# Altium footprint library PCB_Frames.PcbLib: 8 footprints
Each footprint in its own frame and in the unit in brackets; x right, y up, seen from the top. Pads: shape width x height; smd on the part's side, far side on the other; paste and mask are expansions set on the pad; w line width, h text height; cw(c..) or ccw(c..) is an arc to the next point about the centre after c.
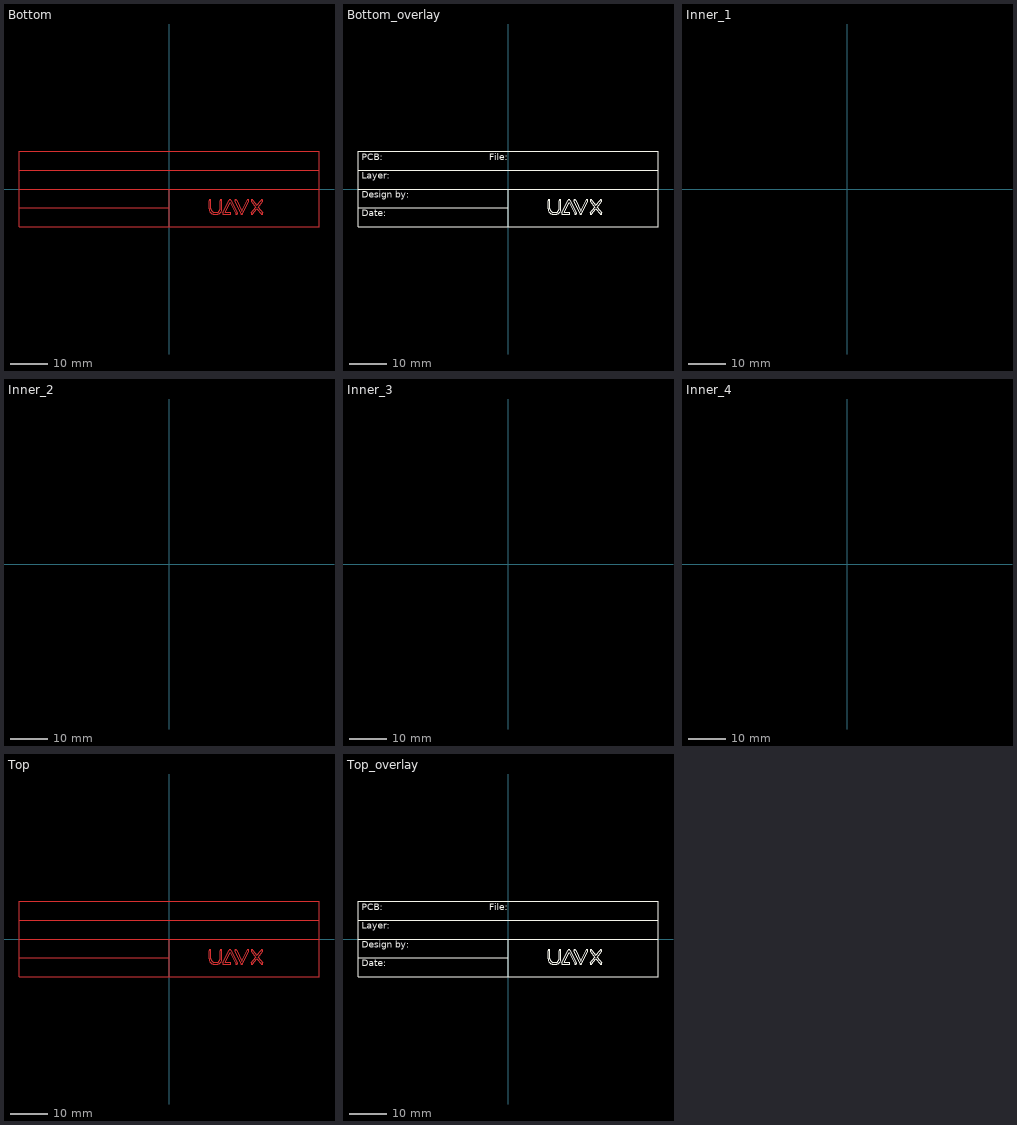
[diagram p0: the footprints below, top view; thin cyan lines are the x and y axes]

## Bottom [mm]
Top Layer:
  lines w0.2: -40,-5 -10,-5 0,-5 ; -40,0 40,0 ; -40,5 40,5 ; 0,-10 0,0 ; -40,-10 -40,10 40,10 40,-10 -40,-10
  lines w0.254: 10.683,-5.249 ccw(c12.196,-5.249) 12.196,-6.762 12.608,-6.762 ccw(c12.618,-5.249) 14.131,-5.249 14.131,-3.11 ccw(c13.88,-3.11) 13.629,-3.11 13.629,-5.249 cw(c12.618,-5.249) 12.609,-6.26 12.196,-6.26 cw(c12.196,-5.249) 11.185,-5.249 11.185,-3.11 ccw(c10.934,-3.11) 10.683,-3.11 10.683,-5.249 ; 14.317,-6.397 ccw(c14.541,-6.511) 14.541,-6.762 16.279,-6.762 ccw(c16.279,-6.511) 16.279,-6.26 14.951,-6.26 16.279,-3.661 17.794,-6.625 ccw(c18.017,-6.511) 18.241,-6.397 16.503,-2.995 ccw(c16.279,-3.11) 16.056,-2.995 14.317,-6.396 ; 17.564,-3.218 cw(c17.79,-3.11) 18.017,-3.001 19.422,-5.93 20.828,-3.001 cw(c21.054,-3.11) 21.28,-3.218 19.648,-6.619 cw(c19.422,-6.511) 19.196,-6.619 17.564,-3.218 ; 21.934,-6.358 ccw(c22.132,-6.511) 22.331,-6.664 23.443,-5.222 24.554,-6.664 ccw(c24.753,-6.511) 24.952,-6.358 23.76,-4.81 24.952,-3.263 ccw(c24.753,-3.11) 24.554,-2.957 23.443,-4.399 22.331,-2.957 ccw(c22.132,-3.11) 21.934,-3.263 23.126,-4.81 21.934,-6.358
  text ".Print_Date" at -30,-8 h3
  text "Date:" at -39,-8 h3
  text "Design by:" at -39,-3 h3
  text ".Author" at -22,-3 h3
  text ".Printout_Name" at -29,2 h3
  text "Layer:" at -39,2 h3
  text ".Pcb_File_Name_No_Path" at 3,7 h3
  text "File:" at -5,7 h3
  text ".Pcb_Name" at -32,7 h3
  text "PCB:" at -39,7 h3

## Bottom_overlay [mm]
Top Overlay:
  lines w0.2: -40,-5 -10,-5 0,-5 ; -40,0 40,0 ; -40,5 40,5 ; 0,-10 0,0 ; -40,-10 -40,10 40,10 40,-10 -40,-10
  lines w0.254: 10.683,-5.249 ccw(c12.196,-5.249) 12.196,-6.762 12.608,-6.762 ccw(c12.618,-5.249) 14.131,-5.249 14.131,-3.11 ccw(c13.88,-3.11) 13.629,-3.11 13.629,-5.249 cw(c12.618,-5.249) 12.609,-6.26 12.196,-6.26 cw(c12.196,-5.249) 11.185,-5.249 11.185,-3.11 ccw(c10.934,-3.11) 10.683,-3.11 10.683,-5.249 ; 14.317,-6.397 ccw(c14.541,-6.511) 14.541,-6.762 16.279,-6.762 ccw(c16.279,-6.511) 16.279,-6.26 14.951,-6.26 16.279,-3.661 17.794,-6.625 ccw(c18.017,-6.511) 18.241,-6.397 16.503,-2.995 ccw(c16.279,-3.11) 16.056,-2.995 14.317,-6.396 ; 17.564,-3.218 cw(c17.79,-3.11) 18.017,-3.001 19.422,-5.93 20.828,-3.001 cw(c21.054,-3.11) 21.28,-3.218 19.648,-6.619 cw(c19.422,-6.511) 19.196,-6.619 17.564,-3.218 ; 21.934,-6.358 ccw(c22.132,-6.511) 22.331,-6.664 23.443,-5.222 24.554,-6.664 ccw(c24.753,-6.511) 24.952,-6.358 23.76,-4.81 24.952,-3.263 ccw(c24.753,-3.11) 24.554,-2.957 23.443,-4.399 22.331,-2.957 ccw(c22.132,-3.11) 21.934,-3.263 23.126,-4.81 21.934,-6.358
  text ".Print_Date" at -30,-8 h3
  text "Date:" at -39,-8 h3
  text "Design by:" at -39,-3 h3
  text ".Author" at -22,-3 h3
  text ".Printout_Name" at -29,2 h3
  text "Layer:" at -39,2 h3
  text ".Pcb_File_Name_No_Path" at 3,7 h3
  text "File:" at -5,7 h3
  text ".Pcb_Name" at -32,7 h3
  text "PCB:" at -39,7 h3

## Inner_1 [mm]
MidLayer1:
  lines w0.2: -40,-5 -10,-5 0,-5 ; -40,0 40,0 ; -40,5 40,5 ; 0,-10 0,0 ; -40,-10 40,-10 40,10 -40,10 -40,-10
  lines w0.254: 10.683,-5.249 ccw(c12.196,-5.249) 12.196,-6.762 12.608,-6.762 ccw(c12.618,-5.249) 14.131,-5.249 14.131,-3.11 ccw(c13.88,-3.11) 13.629,-3.11 13.629,-5.249 cw(c12.618,-5.249) 12.609,-6.26 12.196,-6.26 cw(c12.196,-5.249) 11.185,-5.249 11.185,-3.11 ccw(c10.934,-3.11) 10.683,-3.11 10.683,-5.249 ; 14.317,-6.397 ccw(c14.541,-6.511) 14.541,-6.762 16.279,-6.762 ccw(c16.279,-6.511) 16.279,-6.26 14.951,-6.26 16.279,-3.661 17.794,-6.625 ccw(c18.017,-6.511) 18.241,-6.397 16.503,-2.995 ccw(c16.279,-3.11) 16.056,-2.995 14.317,-6.396 ; 17.564,-3.218 cw(c17.79,-3.11) 18.017,-3.001 19.422,-5.93 20.828,-3.001 cw(c21.054,-3.11) 21.28,-3.218 19.648,-6.619 cw(c19.422,-6.511) 19.196,-6.619 17.564,-3.218 ; 21.934,-6.358 ccw(c22.132,-6.511) 22.331,-6.664 23.443,-5.222 24.554,-6.664 ccw(c24.753,-6.511) 24.952,-6.358 23.76,-4.81 24.952,-3.263 ccw(c24.753,-3.11) 24.554,-2.957 23.443,-4.399 22.331,-2.957 ccw(c22.132,-3.11) 21.934,-3.263 23.126,-4.81 21.934,-6.358
  text "PCB:" at -39,7 h3
  text ".Pcb_Name" at -32,7 h3
  text "File:" at -5,7 h3
  text ".Pcb_File_Name_No_Path" at 3,7 h3
  text "Layer:" at -39,2 h3
  text ".Printout_Name" at -29,2 h3
  text ".Author" at -22,-3 h3
  text "Design by:" at -39,-3 h3
  text "Date:" at -39,-8 h3
  text ".Print_Date" at -30,-8 h3

## Inner_2 [mm]
MidLayer2:
  lines w0.2: -40,-5 -10,-5 0,-5 ; -40,0 40,0 ; -40,5 40,5 ; 0,-10 0,0 ; -40,-10 -40,10 40,10 40,-10 -40,-10
  lines w0.254: 10.683,-5.249 ccw(c12.196,-5.249) 12.196,-6.762 12.608,-6.762 ccw(c12.618,-5.249) 14.131,-5.249 14.131,-3.11 ccw(c13.88,-3.11) 13.629,-3.11 13.629,-5.249 cw(c12.618,-5.249) 12.609,-6.26 12.196,-6.26 cw(c12.196,-5.249) 11.185,-5.249 11.185,-3.11 ccw(c10.934,-3.11) 10.683,-3.11 10.683,-5.249 ; 14.317,-6.397 ccw(c14.541,-6.511) 14.541,-6.762 16.279,-6.762 ccw(c16.279,-6.511) 16.279,-6.26 14.951,-6.26 16.279,-3.661 17.794,-6.625 ccw(c18.017,-6.511) 18.241,-6.397 16.503,-2.995 ccw(c16.279,-3.11) 16.056,-2.995 14.317,-6.396 ; 17.564,-3.218 cw(c17.79,-3.11) 18.017,-3.001 19.422,-5.93 20.828,-3.001 cw(c21.054,-3.11) 21.28,-3.218 19.648,-6.619 cw(c19.422,-6.511) 19.196,-6.619 17.564,-3.218 ; 21.934,-6.358 ccw(c22.132,-6.511) 22.331,-6.664 23.443,-5.222 24.554,-6.664 ccw(c24.753,-6.511) 24.952,-6.358 23.76,-4.81 24.952,-3.263 ccw(c24.753,-3.11) 24.554,-2.957 23.443,-4.399 22.331,-2.957 ccw(c22.132,-3.11) 21.934,-3.263 23.126,-4.81 21.934,-6.358
  text ".Print_Date" at -30,-8 h3
  text "Date:" at -39,-8 h3
  text "Design by:" at -39,-3 h3
  text ".Author" at -22,-3 h3
  text ".Printout_Name" at -29,2 h3
  text "Layer:" at -39,2 h3
  text ".Pcb_File_Name_No_Path" at 3,7 h3
  text "File:" at -5,7 h3
  text ".Pcb_Name" at -32,7 h3
  text "PCB:" at -39,7 h3

## Inner_3 [mm]
MidLayer3:
  lines w0.2: -40,-5 -10,-5 0,-5 ; -40,0 40,0 ; -40,5 40,5 ; 0,-10 0,0 ; -40,-10 -40,10 40,10 40,-10 -40,-10
  lines w0.254: 10.683,-5.249 ccw(c12.196,-5.249) 12.196,-6.762 12.608,-6.762 ccw(c12.618,-5.249) 14.131,-5.249 14.131,-3.11 ccw(c13.88,-3.11) 13.629,-3.11 13.629,-5.249 cw(c12.618,-5.249) 12.609,-6.26 12.196,-6.26 cw(c12.196,-5.249) 11.185,-5.249 11.185,-3.11 ccw(c10.934,-3.11) 10.683,-3.11 10.683,-5.249 ; 14.317,-6.397 ccw(c14.541,-6.511) 14.541,-6.762 16.279,-6.762 ccw(c16.279,-6.511) 16.279,-6.26 14.951,-6.26 16.279,-3.661 17.794,-6.625 ccw(c18.017,-6.511) 18.241,-6.397 16.503,-2.995 ccw(c16.279,-3.11) 16.056,-2.995 14.317,-6.396 ; 17.564,-3.218 cw(c17.79,-3.11) 18.017,-3.001 19.422,-5.93 20.828,-3.001 cw(c21.054,-3.11) 21.28,-3.218 19.648,-6.619 cw(c19.422,-6.511) 19.196,-6.619 17.564,-3.218 ; 21.934,-6.358 ccw(c22.132,-6.511) 22.331,-6.664 23.443,-5.222 24.554,-6.664 ccw(c24.753,-6.511) 24.952,-6.358 23.76,-4.81 24.952,-3.263 ccw(c24.753,-3.11) 24.554,-2.957 23.443,-4.399 22.331,-2.957 ccw(c22.132,-3.11) 21.934,-3.263 23.126,-4.81 21.934,-6.358
  text ".Print_Date" at -30,-8 h3
  text "Date:" at -39,-8 h3
  text "Design by:" at -39,-3 h3
  text ".Author" at -22,-3 h3
  text ".Printout_Name" at -29,2 h3
  text "Layer:" at -39,2 h3
  text ".Pcb_File_Name_No_Path" at 3,7 h3
  text "File:" at -5,7 h3
  text ".Pcb_Name" at -32,7 h3
  text "PCB:" at -39,7 h3

## Inner_4 [mm]
MidLayer4:
  lines w0.2: -40,-5 -10,-5 0,-5 ; -40,0 40,0 ; -40,5 40,5 ; 0,-10 0,0 ; -40,-10 40,-10 40,10 -40,10 -40,-10
  lines w0.254: 10.683,-5.249 ccw(c12.196,-5.249) 12.196,-6.762 12.608,-6.762 ccw(c12.618,-5.249) 14.131,-5.249 14.131,-3.11 ccw(c13.88,-3.11) 13.629,-3.11 13.629,-5.249 cw(c12.618,-5.249) 12.609,-6.26 12.196,-6.26 cw(c12.196,-5.249) 11.185,-5.249 11.185,-3.11 ccw(c10.934,-3.11) 10.683,-3.11 10.683,-5.249 ; 14.317,-6.397 ccw(c14.541,-6.511) 14.541,-6.762 16.279,-6.762 ccw(c16.279,-6.511) 16.279,-6.26 14.951,-6.26 16.279,-3.661 17.794,-6.625 ccw(c18.017,-6.511) 18.241,-6.397 16.503,-2.995 ccw(c16.279,-3.11) 16.056,-2.995 14.317,-6.396 ; 17.564,-3.218 cw(c17.79,-3.11) 18.017,-3.001 19.422,-5.93 20.828,-3.001 cw(c21.054,-3.11) 21.28,-3.218 19.648,-6.619 cw(c19.422,-6.511) 19.196,-6.619 17.564,-3.218 ; 21.934,-6.358 ccw(c22.132,-6.511) 22.331,-6.664 23.443,-5.222 24.554,-6.664 ccw(c24.753,-6.511) 24.952,-6.358 23.76,-4.81 24.952,-3.263 ccw(c24.753,-3.11) 24.554,-2.957 23.443,-4.399 22.331,-2.957 ccw(c22.132,-3.11) 21.934,-3.263 23.126,-4.81 21.934,-6.358
  text "PCB:" at -39,7 h3
  text ".Pcb_Name" at -32,7 h3
  text "File:" at -5,7 h3
  text ".Pcb_File_Name_No_Path" at 3,7 h3
  text "Layer:" at -39,2 h3
  text ".Printout_Name" at -29,2 h3
  text ".Author" at -22,-3 h3
  text "Design by:" at -39,-3 h3
  text "Date:" at -39,-8 h3
  text ".Print_Date" at -30,-8 h3

## Top [mm]
Top Layer:
  lines w0.2: -40,-5 -10,-5 0,-5 ; -40,0 40,0 ; -40,5 40,5 ; 0,-10 0,0 ; -40,-10 40,-10 40,10 -40,10 -40,-10
  lines w0.254: 10.683,-5.249 ccw(c12.196,-5.249) 12.196,-6.762 12.608,-6.762 ccw(c12.618,-5.249) 14.131,-5.249 14.131,-3.11 ccw(c13.88,-3.11) 13.629,-3.11 13.629,-5.249 cw(c12.618,-5.249) 12.609,-6.26 12.196,-6.26 cw(c12.196,-5.249) 11.185,-5.249 11.185,-3.11 ccw(c10.934,-3.11) 10.683,-3.11 10.683,-5.249 ; 14.317,-6.397 ccw(c14.541,-6.511) 14.541,-6.762 16.279,-6.762 ccw(c16.279,-6.511) 16.279,-6.26 14.951,-6.26 16.279,-3.661 17.794,-6.625 ccw(c18.017,-6.511) 18.241,-6.397 16.503,-2.995 ccw(c16.279,-3.11) 16.056,-2.995 14.317,-6.396 ; 17.564,-3.218 cw(c17.79,-3.11) 18.017,-3.001 19.422,-5.93 20.828,-3.001 cw(c21.054,-3.11) 21.28,-3.218 19.648,-6.619 cw(c19.422,-6.511) 19.196,-6.619 17.564,-3.218 ; 21.934,-6.358 ccw(c22.132,-6.511) 22.331,-6.664 23.443,-5.222 24.554,-6.664 ccw(c24.753,-6.511) 24.952,-6.358 23.76,-4.81 24.952,-3.263 ccw(c24.753,-3.11) 24.554,-2.957 23.443,-4.399 22.331,-2.957 ccw(c22.132,-3.11) 21.934,-3.263 23.126,-4.81 21.934,-6.358
  text "PCB:" at -39,7 h3
  text ".Pcb_Name" at -32,7 h3
  text "File:" at -5,7 h3
  text ".Pcb_File_Name_No_Path" at 3,7 h3
  text "Layer:" at -39,2 h3
  text ".Printout_Name" at -29,2 h3
  text ".Author" at -22,-3 h3
  text "Design by:" at -39,-3 h3
  text "Date:" at -39,-8 h3
  text ".Print_Date" at -30,-8 h3

## Top_overlay [mm]
Top Overlay:
  lines w0.2: -40,-5 -10,-5 0,-5 ; -40,0 40,0 ; -40,5 40,5 ; 0,-10 0,0 ; -40,-10 40,-10 40,10 -40,10 -40,-10
  lines w0.254: 10.683,-5.249 ccw(c12.196,-5.249) 12.196,-6.762 12.608,-6.762 ccw(c12.618,-5.249) 14.131,-5.249 14.131,-3.11 ccw(c13.88,-3.11) 13.629,-3.11 13.629,-5.249 cw(c12.618,-5.249) 12.609,-6.26 12.196,-6.26 cw(c12.196,-5.249) 11.185,-5.249 11.185,-3.11 ccw(c10.934,-3.11) 10.683,-3.11 10.683,-5.249 ; 14.317,-6.397 ccw(c14.541,-6.511) 14.541,-6.762 16.279,-6.762 ccw(c16.279,-6.511) 16.279,-6.26 14.951,-6.26 16.279,-3.661 17.794,-6.625 ccw(c18.017,-6.511) 18.241,-6.397 16.503,-2.995 ccw(c16.279,-3.11) 16.056,-2.995 14.317,-6.396 ; 17.564,-3.218 cw(c17.79,-3.11) 18.017,-3.001 19.422,-5.93 20.828,-3.001 cw(c21.054,-3.11) 21.28,-3.218 19.648,-6.619 cw(c19.422,-6.511) 19.196,-6.619 17.564,-3.218 ; 21.934,-6.358 ccw(c22.132,-6.511) 22.331,-6.664 23.443,-5.222 24.554,-6.664 ccw(c24.753,-6.511) 24.952,-6.358 23.76,-4.81 24.952,-3.263 ccw(c24.753,-3.11) 24.554,-2.957 23.443,-4.399 22.331,-2.957 ccw(c22.132,-3.11) 21.934,-3.263 23.126,-4.81 21.934,-6.358
  text "PCB:" at -39,7 h3
  text ".Pcb_Name" at -32,7 h3
  text "File:" at -5,7 h3
  text ".Pcb_File_Name_No_Path" at 3,7 h3
  text "Layer:" at -39,2 h3
  text ".Printout_Name" at -29,2 h3
  text ".Author" at -22,-3 h3
  text "Design by:" at -39,-3 h3
  text "Date:" at -39,-8 h3
  text ".Print_Date" at -30,-8 h3